# EAGLE library part 6623XX131824_662308131824 (library WR-MPC3)
WR-MPC3 3.00mm Male Header Single Row Vertical with SMT Solder Tabs - SMT - Selective Gold Kind Properties Pitch 3 mm Rows Single Type Vertical Operating Temperature -40 up to +105 °C Durability 75 Mating cycles Material Properties Insulator Material LCP Insulator Color Black Insulator Flammability Rating UL94 V-0 Pin Material Copper Alloy Pin Plating Selective Gold Electrical Properties IR 5 A Working Voltage 250 V (AC) Withstanding Voltage 1500 V (AC) Contact Resistance 10 mΩ Packaging Properties Packaging Tape and Reel with Cap Certification UL Approval E323964 <https://www.we-online.com/components/media/o726810v209%206623xx131822_Multi-Parts.jpg> Details see: www.we-online.com/components/products/WR-MPC3_3_MM_MALE_HEADER_SINGLE_ROW_VERTICAL_WITH_SMT_SOLDER_TABS_SMT_SELECTIVE_GOLD <www.we-online.com/catalog/WR-MPC3_3_MM_MALE_HEADER_SINGLE_ROW_VERTICAL_WITH_SMT_SOLDER_TABS_SMT_SELECTIVE_GOLD/?utm_source=eagle_model&utm_medium=description_link&utm_campaign=eisos_eagle> Created by Ella Wu 2023-10-12 2023 (C) Würth Elektronik
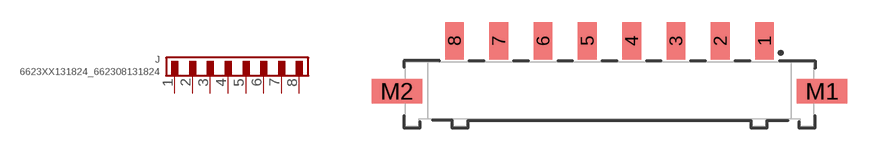
[diagram p158: symbol with the pads of 662308131824; footprint 662308131824]

Designator prefix J

## 6623XX131824_662308131824 (CONTACT-RESISTANCE: 10Ohm; DATASHEET-URL: https://www.we-online.com/redexpert/spec/662308131824?ae; GENDER: Male; IR: 5A; MOUNT: SMT; PART-NUMBER: 662308131824; PINS: 8; PITCH: 3mm; ROWS: Single; TOL-R: max.; TYPE: Vertical; VALUE: 662308131824; WORKING-VOLTAGE: 250V(AC))  [662308131824]
1  1  pas
2  2  pas
3  3  pas
4  4  pas
5  5  pas
6  6  pas
7  7  pas
8  8  pas

## Footprint 662308131824 (pad centres in mm)
WR-MPC3 3.00mm Male Header Single Row Vertical with SMT Solder Tabs - SMT - Selective Gold 8Pins
smd 1.27 x 2.54: 1 10.5,3.385; 2 7.5,3.385; 3 4.5,3.385; 4 1.5,3.385; 5 -1.5,3.385; 6 -4.5,3.385; 7 -7.5,3.385; 8 -10.5,3.385
smd 3.43 x 1.65: M1 14.395,-0.035; M2 -14.395,-0.035